# Altium footprint library Intercom Gen2 Main PCB.PcbLib: 115 footprints (part 4 of 8)
Each footprint in its own frame and in the unit in brackets; x right, y up, seen from the top. Pads: shape width x height; smd on the part's side, far side on the other; paste and mask are expansions set on the pad; w line width, h text height; cw(c..) or ccw(c..) is an arc to the next point about the centre after c.
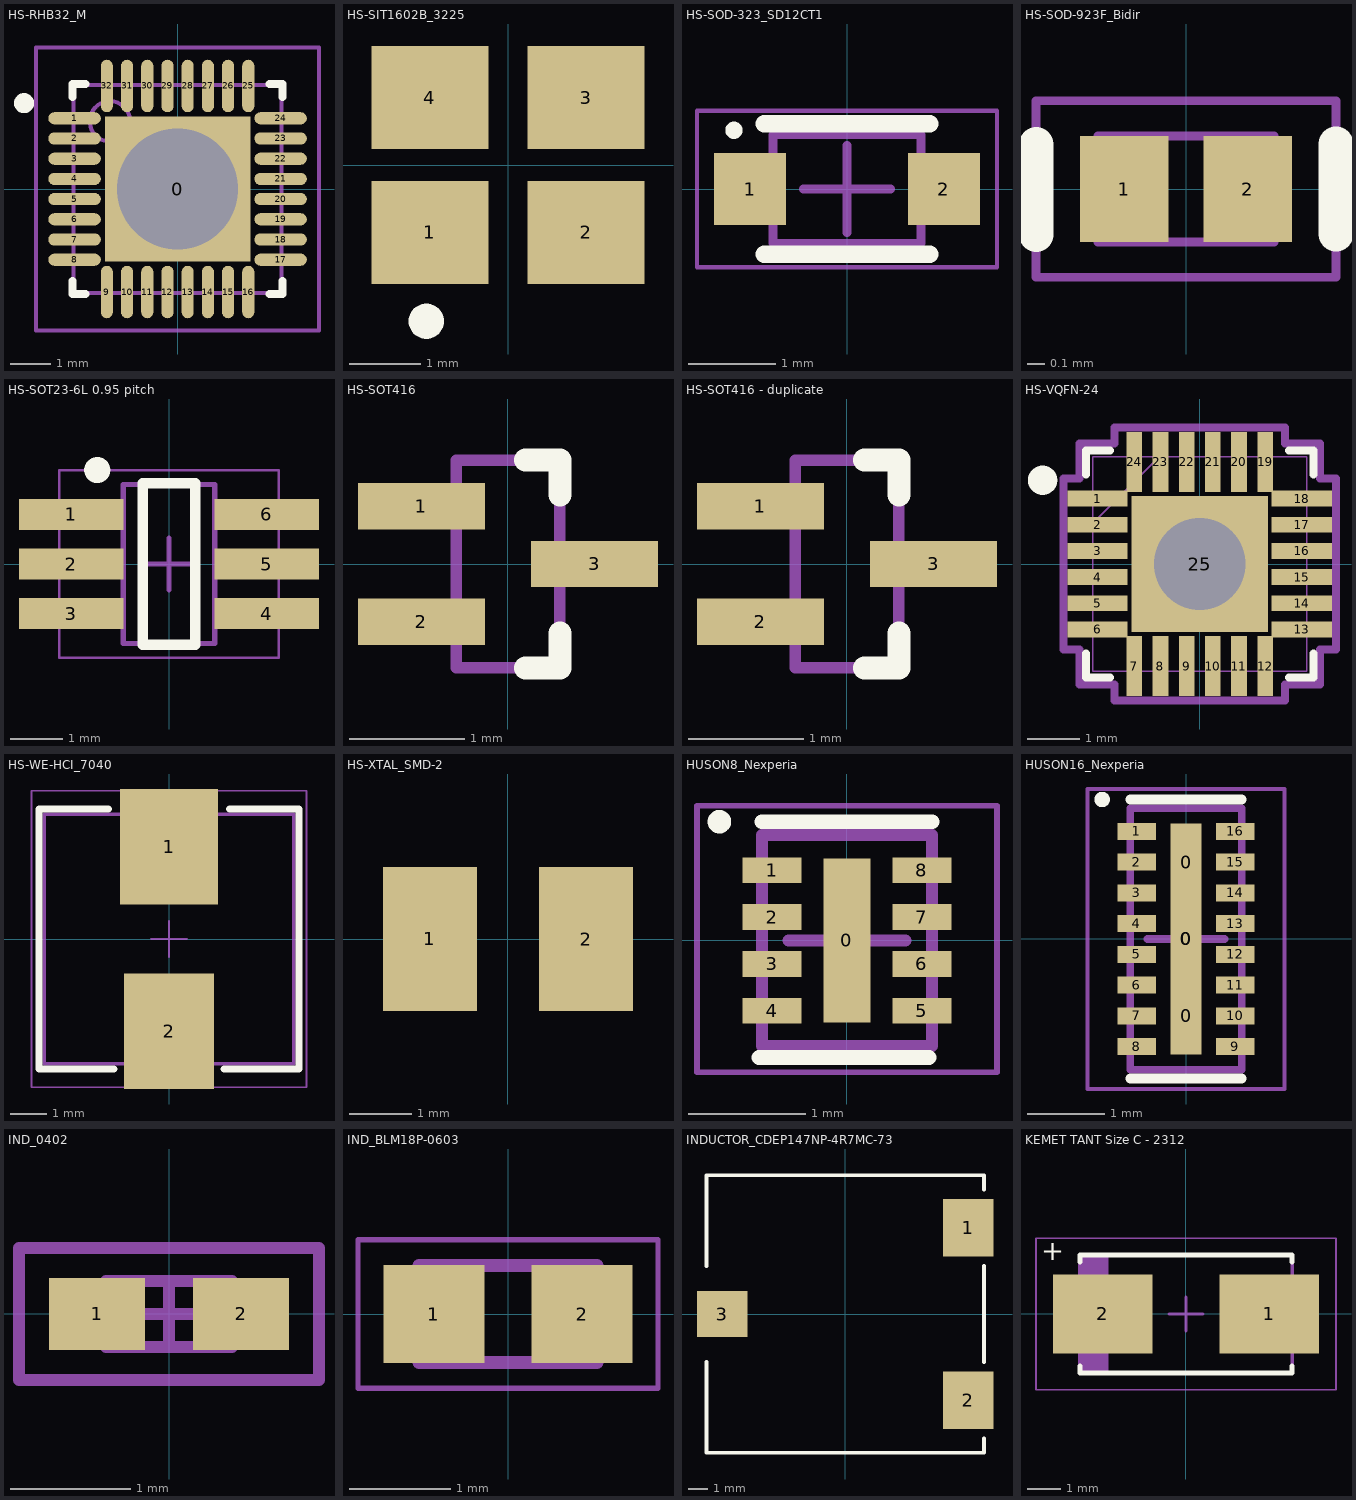
[diagram p3: the footprints below, top view; thin cyan lines are the x and y axes]

## HS-RHB32_M [mm] "32-Pin Plastic Quad Flat No-Lead 0.5 mm Pitch, IPC Low Density"
height 1
pads (33):
  rect 3.6x3.6 hole 3: 0(0,0)
  oval 1.3x0.3 smd: 1(-2.55,1.75) 2(-2.55,1.25) 3(-2.55,0.75) 4(-2.55,0.25) 5(-2.55,-0.25) 6(-2.55,-0.75) 7(-2.55,-1.25) 8(-2.55,-1.75) 17(2.55,-1.75) 18(2.55,-1.25) 19(2.55,-0.75) 20(2.55,-0.25) 21(2.55,0.25) 22(2.55,0.75) 23(2.55,1.25) 24(2.55,1.75)
  oval 0.3x1.3 smd: 9(-1.75,-2.55) 10(-1.25,-2.55) 11(-0.75,-2.55) 12(-0.25,-2.55) 13(0.25,-2.55) 14(0.75,-2.55) 15(1.25,-2.55) 16(1.75,-2.55) 25(1.75,2.55) 26(1.25,2.55) 27(0.75,2.55) 28(0.25,2.55) 29(-0.25,2.55) 30(-0.75,2.55) 31(-1.25,2.55) 32(-1.75,2.55)
Top Overlay:
  circle w0.25: c-3.8,2.125 r0.125
  lines w0.2: -2.6,-2.275 -2.6,-2.6 -2.275,-2.6 ; -2.6,2.275 -2.6,2.6 -2.275,2.6 ; 2.275,-2.6 2.6,-2.6 2.6,-2.275 ; 2.275,2.6 2.6,2.6 2.6,2.275
Mechanical 13:
  circle w0.1: c-1.675,1.675 r0.5
  lines w0.1: -2.575,-2.575 -2.575,2.575 2.575,2.575 2.575,-2.575 -2.575,-2.575
Mechanical 15:
  lines w0.1: -0.5,0 0.5,0 ; 0,-0.5 0,0.5 ; -3.5,-3.5 -3.5,3.5 3.5,3.5 3.5,-3.5 -3.5,-3.5
3D body: height 1, standoff 0, extent -2.575,-2.575 2.575,2.575

## HS-SIT1602B_3225 [mm] "HS variant for SiT1602B_3225 Series"
height 0.75
pads (5):
  rect 1.65x1.45 smd: 1(-1.1,-0.95)
  rect 1.65x1.45 smd paste-0.1: 2(1.1,-0.95) 3(1.1,0.95) 4(-1.1,0.95)
  round 0.5 on Top Overlay: ""(-1.15,-2.2)
3D body "SiT1602B_3225.stp": height 0.76, standoff -0.04, extent -1.6,-1.25 1.6,1.25

## HS-SOD-323_SD12CT1 [mm] "ON Semi SD12CT1_ 2-Leads, Body 1.25x2.50mm, pitch 2.1mm"
height 1
pads (2):
  rect 0.83x0.83 smd: 1(-1.115,0) 2(1.115,0)
Top Overlay:
  circle w0.1: c-1.3,0.675 r0.05
  lines w0.2: -0.95,-0.75 0.95,-0.75 ; -0.95,0.75 0.95,0.75
Mechanical 13:
  lines w0.1: -1.25,0.2 -0.85,0.2 ; -1.25,0.2 -1.25,-0.2 -0.85,-0.2 ; 0.85,-0.2 1.25,-0.2 1.25,0.2 0.85,0.2 ; -0.85,-0.625 0.85,-0.625 0.85,0.625 -0.85,0.625 -0.85,-0.625
Mechanical 15:
  lines w0.05: -1.725,-0.9 1.725,-0.9 1.725,0.9 -1.725,0.9 -1.725,-0.9
  lines w0.1: -0.5,0 0.5,0 ; 0,-0.5 0,0.5
3D body: height 0.12, standoff 0, extent 0.85,-0.2 1.25,0.2
3D body: height 0.12, standoff 0, extent -1.25,-0.2 -0.85,0.2
3D body: height 1, standoff 0, extent -0.85,-0.625 0.85,0.625

## HS-SOD-923F_Bidir [mm] "0402C/SOD-923F 1mmx0.6mmx0.5mm"
height 0.5
pads (2):
  rect 0.5x0.6 smd: 1(-0.35,0) 2(0.35,0)
Top Overlay:
  lines w0.2: -0.85,-0.258 -0.85,0.25 ; 0.85,-0.254 0.85,0.254
Mechanical 13:
  lines w0.05: -0.5,-0.3 0.5,-0.3 0.5,0.3 -0.5,0.3 -0.5,-0.3
Mechanical 15:
  lines w0.05: -0.85,-0.5 0.85,-0.5 0.85,0.5 -0.85,0.5 -0.85,-0.5
3D body: height 0.43, standoff 0.05, extent -0.4,-0.3 0.4,0.3
3D body: height 0.44, standoff 0.43, extent 0.3,-0.3 0.4,0.3
3D body: height 0.5, standoff 0, extent -0.5,-0.3 0.5,0.3

## HS-SOT23-6L 0.95 pitch [mm] "SOT23, 6-Leads, Body 2.92x2.80mm, Pitch 0.95mm, IPC Medium Density"
height 1.1
pads (6):
  rect 2x0.6 smd: 1(-1.875,0.95) 2(-1.875,0) 3(-1.875,-0.95) 4(1.875,-0.95) 5(1.875,0) 6(1.875,0.95)
Top Overlay:
  circle w0.25: c-1.375,1.8 r0.125
  lines w0.2: -0.5,-1.55 -0.5,1.55 0.5,1.55 0.5,-1.55 -0.5,-1.55
Mechanical 13:
  lines w0.1: -0.875,-1.525 0.875,-1.525 0.875,1.525 -0.875,1.525 -0.875,-1.525
Mechanical 15:
  lines w0.05: -2.1,-1.8 2.1,-1.8 2.1,1.8 -2.1,1.8 -2.1,-1.8
  lines w0.1: -0.5,0 0.5,0 ; 0,-0.5 0,0.5
3D body: height 1.1, standoff 0.05, extent -0.875,-1.525 0.875,1.525

## HS-SOT416 [mm] "SOT416, 3-Leads, Body 1.6x0.8mm, Pitch 0.50mm, Lead Span 1.6mm, IPC Medium Density"
height 0.95
pads (3):
  rect 1.1x0.4 smd: 1(-0.75,0.5) 2(-0.75,-0.5) 3(0.75,0)
Top Overlay:
  lines w0.2: 0.15,-0.9 0.45,-0.9 0.45,-0.6 ; 0.15,0.9 0.45,0.9 0.45,0.6
Mechanical 13:
  lines w0.1: -0.45,-0.9 0.45,-0.9 0.45,0.9 -0.45,0.9 -0.45,-0.9
3D body: height 0.95, standoff 0, extent -0.45,-0.9 0.45,0.9

## HS-SOT416 - duplicate [mm] "SOT416, 3-Leads, Body 1.6x0.8mm, Pitch 0.50mm, Lead Span 1.6mm, IPC Medium Density"
height 0.95
pads (3):
  rect 1.1x0.4 smd: 1(-0.75,0.5) 2(-0.75,-0.5) 3(0.75,0)
Top Overlay:
  lines w0.2: 0.15,-0.9 0.45,-0.9 0.45,-0.6 ; 0.15,0.9 0.45,0.9 0.45,0.6
Mechanical 13:
  lines w0.1: -0.45,-0.9 -0.45,0.9 0.45,0.9 0.45,-0.9 -0.45,-0.9
3D body: height 0.95, standoff 0, extent -0.45,-0.9 0.45,0.9

## HS-VQFN-24 [mm] "24 No Lead, 4x4x0.9mm body, 0.5mm pitch, 2.6x2.6mm ePAD"
height 1
pads (25):
  rect 1.15x0.3 smd paste+0 mask+0.05: 1(-1.95,1.25) 2(-1.95,0.75) 3(-1.95,0.25) 4(-1.95,-0.25) 5(-1.95,-0.75) 6(-1.95,-1.25) 13(1.95,-1.25) 14(1.95,-0.75) 15(1.95,-0.25) 16(1.95,0.25) 17(1.95,0.75) 18(1.95,1.25)
  rect 0.3x1.15 smd paste+0 mask+0.05: 7(-1.25,-1.95) 8(-0.75,-1.95) 9(-0.25,-1.95) 10(0.25,-1.95) 11(0.75,-1.95) 12(1.25,-1.95) 19(1.25,1.95) 20(0.75,1.95) 21(0.25,1.95) 22(-0.25,1.95) 23(-0.75,1.95) 24(-1.25,1.95)
  rect 2.6x2.6 hole 1.75: 25(0,0)
Top Overlay:
  circle w0.305: c-3,1.6 r0.127
  lines w0.152: -2.172,-1.71 -2.172,-2.172 -1.71,-2.172 ; -2.172,1.71 -2.172,2.172 -1.71,2.172 ; 1.71,-2.172 2.172,-2.172 2.172,-1.71 ; 1.71,2.172 2.172,2.172 2.172,1.71
Mechanical 13:
  lines w0.025: -2.045,0.775 -0.775,2.045 ; -2.045,-2.045 2.045,-2.045 2.045,2.045 -2.045,2.045 -2.045,-2.045 ; -2.045,-1.402 -2.045,-1.098 -2.045,-1.402 ; -2.045,-0.902 -2.045,-0.598 -2.045,-0.902 ; -2.045,-0.402 -2.045,-0.098 -2.045,-0.402 ; -2.045,0.098 -2.045,0.402 -2.045,0.098 ; -2.045,0.598 -2.045,0.902 -2.045,0.598 ; -2.045,1.098 -2.045,1.402 -2.045,1.098 ; -1.402,-2.045 -1.098,-2.045 -1.402,-2.045 ; -1.402,2.045 -1.098,2.045 -1.402,2.045 ; -0.902,-2.045 -0.598,-2.045 -0.902,-2.045 ; -0.902,2.045 -0.598,2.045 -0.902,2.045 ; -0.402,-2.045 -0.098,-2.045 -0.402,-2.045 ; -0.402,2.045 -0.098,2.045 -0.402,2.045 ; 0.098,-2.045 0.402,-2.045 0.098,-2.045 ; 0.098,2.045 0.402,2.045 0.098,2.045 ; 0.598,-2.045 0.902,-2.045 0.598,-2.045 ; 0.598,2.045 0.902,2.045 0.598,2.045 ; 1.098,-2.045 1.402,-2.045 1.098,-2.045 ; 1.098,2.045 1.402,2.045 1.098,2.045 ; 2.045,-1.402 2.045,-1.098 2.045,-1.402 ; 2.045,-0.902 2.045,-0.598 2.045,-0.902 ; 2.045,-0.402 2.045,-0.098 2.045,-0.402 ; 2.045,0.098 2.045,0.402 2.045,0.098 ; 2.045,0.598 2.045,0.902 2.045,0.598 ; 2.045,1.098 2.045,1.402 2.045,1.098
Mechanical 15:
  lines w0.152: -2.603,-1.631 -2.299,-1.631 -2.299,-2.299 -1.631,-2.299 -1.631,-2.603 1.631,-2.603 1.631,-2.299 2.299,-2.299 2.299,-1.631 2.603,-1.631 2.603,1.631 2.299,1.631 2.299,2.299 1.631,2.299 1.631,2.603 -1.631,2.603 -1.631,2.299 -2.299,2.299 -2.299,1.631 -2.603,1.631 -2.603,-1.631
3D body "SQFN24_4X4MC_MCH-M.step": height 1.4, standoff 0, extent -2.045,-2.045 2.045,2.045

## HS-WE-HCI_7040 [mm] "SMT Flat Wire High Current Inductor, body 6.9x6.9mm"
height 3.8
pads (2):
  rect 2.7x3.2 smd: 1(0,2.55)
  rect 2.5x3.2 smd: 2(0,-2.55)
Top Overlay:
  lines w0.2: -1.675,3.6 -3.6,3.6 -3.6,-3.6 -1.525,-3.6 ; 1.525,-3.6 3.6,-3.6 3.6,3.6 1.675,3.6
Mechanical 13:
  lines w0.1: -3.45,-3.45 -3.45,3.45 3.45,3.45 3.45,-3.45 -3.45,-3.45
Mechanical 15:
  lines w0.05: -0.5,0 0.5,0 ; 0,-0.5 0,0.5 ; -3.8,-4.1 -3.8,4.1 3.8,4.1 3.8,-4.1 -3.8,-4.1
3D body "744311xxx.stp": height 4, standoff 0, extent -3.45,-3.5 3.45,3.5

## HS-XTAL_SMD-2 [mm] "HS version (+0.5mm pads) - 2pads  3215"
height 0.8
pads (2):
  rect 1.5x2.3 smd paste-0.1: 1(-1.25,0) 2(1.25,0)
3D body "NDK_NX3215SA.STEP": height 0.8, standoff 0, extent -1.6,-0.75 1.6,0.75

## HUSON8_Nexperia [mm] "SON, 8-Leads, Body 1.70x1.35mmx0.55, Pitch 0.40mm, Thermal Pad 1.40x0.4mm, IPC Medium Density"
height 0.55
pads (9):
  rect 0.4x1.4 smd paste-100: 0(0,0)
  rect 0.5x0.22 smd: 1(-0.64,0.6) 2(-0.64,0.2) 3(-0.64,-0.2) 4(-0.64,-0.6) 5(0.64,-0.6) 6(0.64,-0.2) 7(0.64,0.2) 8(0.64,0.6)
Top Overlay:
  circle w0.1: c-1.088,1.014 r0.05
  lines w0.127: -0.75,-1 0.7,-1 ; -0.725,1.014 0.725,1.014
Top Paste:
  rectangle: -0.15,-0.25 0.15,0.25
Mechanical 13:
  lines w0.1: -0.725,-0.9 -0.725,0.9 0.725,0.9 0.725,-0.9 -0.725,-0.9
Mechanical 15:
  lines w0.05: -1.28,-1.125 -1.28,1.15 1.28,1.15 1.28,-1.125 -1.28,-1.125
  lines w0.1: -0.5,0 0.5,0 ; 0,-0.5 0,0.5
3D body "QFN8_SOT1166-1_NEX.step": height 0.56, standoff 0, extent -0.724,-0.902 0.724,0.902

## HUSON16_Nexperia [mm] "SON, 16-Leads, Body 3.30x1.35mmx0.55, Pitch 0.40mm, Thermal Pad 2.80x0.4mm, IPC Medium Density"
height 0.55
pads (20):
  rect 0.3x0.35 smd mask-100: 0(0,-1) 0(0,0) 0(0,1)
  rect 0.4x3 smd paste-100: 0(0,0)
  rect 0.5x0.22 smd: 1(-0.64,1.4) 2(-0.64,1) 3(-0.64,0.6) 4(-0.64,0.2) 5(-0.64,-0.2) 6(-0.64,-0.6) 7(-0.64,-1) 8(-0.64,-1.4) 9(0.64,-1.4) 10(0.64,-1) 11(0.64,-0.6) 12(0.64,-0.2) 13(0.64,0.2) 14(0.64,0.6) 15(0.64,1) 16(0.64,1.4)
Top Overlay:
  circle w0.1: c-1.089,1.813 r0.05
  lines w0.127: -0.725,-1.813 0.725,-1.813 ; -0.725,1.813 0.725,1.813
Mechanical 13:
  lines w0.1: -0.725,-1.7 0.725,-1.7 0.725,1.7 -0.725,1.7 -0.725,-1.7
Mechanical 15:
  lines w0.05: -1.28,-1.95 1.28,-1.95 1.28,1.95 -1.28,1.95 -1.28,-1.95
  lines w0.1: -0.5,0 0.5,0 ; 0,-0.5 0,0.5
3D body "HSON16_Nexperia.step": height 0.55, standoff 0, extent -0.775,-1.7 0.775,1.7

## IND_0402 [mm]
height 0.55
pads (2):
  rect 0.8x0.6 smd: 1(-0.6,0) 2(0.6,0)
Mechanical 13:
  lines w0.1: -0.525,-0.275 0.525,-0.275 0.525,0.275 -0.525,0.275 -0.525,-0.275
Mechanical 15:
  lines w0.1: -0.275,0 0.275,0 ; 0,-0.275 0,0.275 ; -1.25,-0.55 1.25,-0.55 1.25,0.55 -1.25,0.55 -1.25,-0.55
3D body: height 0.55, standoff 0, extent -0.525,-0.275 0.525,0.275

## IND_BLM18P-0603 [mm] "Ferrite Bead-0603"
height 0.8
pads (2):
  rect 1x0.97 smd: 1(-0.735,0) 2(0.735,0)
Mechanical 13:
  lines w0.127: -0.88,-0.48 0.88,-0.48 ; -0.88,-0.48 0.88,-0.48 ; -0.88,-0.48 -0.88,0.48 ; -0.88,-0.48 -0.88,0.48 ; -0.88,0.48 0.88,0.48 ; -0.88,0.48 0.88,0.48 ; 0.88,-0.48 0.88,0.48 ; 0.88,-0.48 0.88,0.48
Mechanical 15:
  lines w0.05: -1.485,-0.735 1.485,-0.735 1.485,0.735 -1.485,0.735 -1.485,-0.735

## INDUCTOR_CDEP147NP-4R7MC-73 [mm]
height 8
pads (3):
  rect 2.65x3 smd: 1(6.425,4.5) 2(6.425,-4.5)
  rect 2.65x2.4 smd: 3(-6.425,0)
Top Overlay:
  lines w0.2: -7.25,-7.25 -7.25,-2.5 ; -7.25,2.5 -7.25,7.25 7.25,7.25 7.25,6.5 ; -7.239,-7.25 7.25,-7.25 7.25,-6.5 ; 7.25,-2.5 7.25,2.5

## KEMET TANT Size C - 2312 [mm] "Molded Capacitor, 2-Leads, Body 6.00x3.20mm, IPC Low Density"
height 2.8
pads (2):
  rect 2.95x2.35 smd: 1(2.475,0) 2(-2.475,0)
Top Overlay:
  lines w0.15: -3.15,-1.55 -3.15,-1.75 3.15,-1.75 3.15,-1.55 ; -3.15,1.55 -3.15,1.75 3.15,1.75 3.15,1.55
  text "+" at -4.3,1.6 h0.6
Mechanical 13:
  rectangle: -3.15,-1.75 -2.303,1.75
  lines w0.1: -3.15,-1.75 -3.15,1.75 3.15,1.75 3.15,-1.75 -3.15,-1.75
Mechanical 15:
  lines w0.05: -4.45,-2.25 -4.45,2.25 4.45,2.25 4.45,-2.25 -4.45,-2.25
  lines w0.1: -0.5,0 0.5,0 ; 0,-0.5 0,0.5
3D body: height 2.8, standoff 0, extent -3.15,-1.75 3.15,1.75